# Altium integrated library 0532610671.IntLib: 1 symbol
Pins are listed as number, name and electrical type; pins without a type are passive.

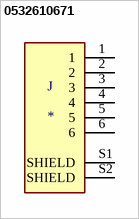
[diagram p0: symbol 0532610671]

## 0532610671
designator J
Picoblade Connector, 6 Circuit Single Row, Right Angle Surface Mount SMT PCB; MP: 0532610671; MF: Molex; SnapEDA_Link: https://www.snapeda.com/parts/0532610671/Molex/view-part/523089/?ref=snap; Package: None; Value: *; Digi-Key_Part_Number: WM7624CT-ND; Digi-Key_Purchase_URL: https://www.digikey.com/product-detail/en/molex/0532610671/WM7624CT-ND/699111?utm_source=snapeda&utm_medium=aggregator&utm_campaign=symbol
footprint MOLEX_0532610671
pins: 1, 2, 3, 4, 5, 6, S1 SHIELD, S2 SHIELD